# EAGLE library part TPS61020DRCRG4 (library TI-TPS61020DRCRG4)
96% EFFICIENT SYNCHRONOUS BOOST CONVERTER
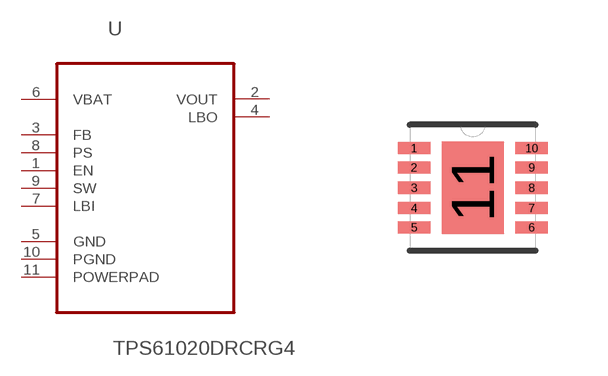
[diagram p0: symbol with the pads of SON50P300X300X100-11N; footprint SON50P300X300X100-11N]

Designator prefix U

## TPS61020DRCRG4 (MPN: TPS61020DRCRG4; OC_FARNELL: 9969160; OC_NEWARK: 79K3407; PACKAGE: SON-10; SUPPLIER: Texas Instruments)  [SON50P300X300X100-11N]
1  EN  in
2  VOUT  out
3  FB  in
4  LBO  out
5  GND  pas
6  VBAT  pwr
7  LBI  in
8  PS  in
9  SW  in
10  PGND  pas
11  POWERPAD  pas

## Footprint SON50P300X300X100-11N (pad centres in mm)
smd 0.813 x 0.305: 1 -1.473,0.991; 2 -1.473,0.508; 3 -1.473,0; 4 -1.473,-0.508; 5 -1.473,-0.991; 6 1.473,-0.991; 7 1.473,-0.508; 8 1.473,0; 9 1.473,0.508; 10 1.473,0.991
smd 1.549 x 2.311: 11 0,0